# EAGLE library part ARDUINO_PLATINE (library arduino_platine)
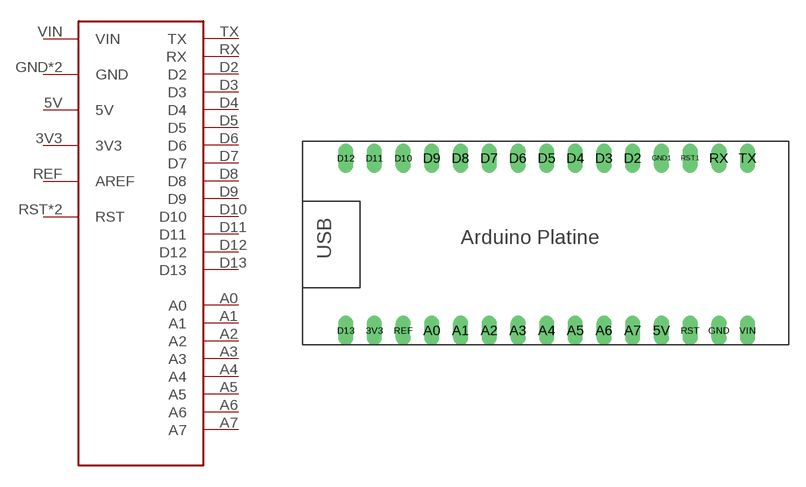
[diagram p0: symbol with the pads of ARDUINO_PLATINE; footprint ARDUINO_PLATINE]

Designator prefix -

## ARDUINO_PLATINE  [ARDUINO_PLATINE]
3V3  3V3
5V  5V
A0  A0
A1  A1
A2  A2
A3  A3
A4  A4
A5  A5
A6  A6
A7  A7
D2  D2
D3  D3
D4  D4
D5  D5
D6  D6
D7  D7
D8  D8
D9  D9
D10  D10
D11  D11
D12  D12
D13  D13
GND  GND  sup
GND1  GND  sup
REF  AREF
RST  RST
RST1  RST
RX  RX
TX  TX
VIN  VIN  sup

## Footprint ARDUINO_PLATINE (pad centres in mm)
drill 0.8 long: 3V3 6.35,1.27; 5V 31.75,1.27; A0 11.43,1.27; A1 13.97,1.27; A2 16.51,1.27; A3 19.05,1.27; A4 21.59,1.27; A5 24.13,1.27; A6 26.67,1.27; A7 29.21,1.27; D2 29.21,16.51; D3 26.67,16.51; D4 24.13,16.51; D5 21.59,16.51; D6 19.05,16.51; D7 16.51,16.51; D8 13.97,16.51; D9 11.43,16.51; D10 8.89,16.51; D11 6.35,16.51; D12 3.81,16.51; D13 3.81,1.27; GND 36.83,1.27; GND1 31.75,16.51; REF 8.89,1.27; RST 34.29,1.27; RST1 34.29,16.51; RX 36.83,16.51; TX 39.37,16.51; VIN 39.37,1.27